# Altium schematic symbol library STM32.SchLib: 5 symbols
Pins are listed as number, name and electrical type; pins without a type are passive.

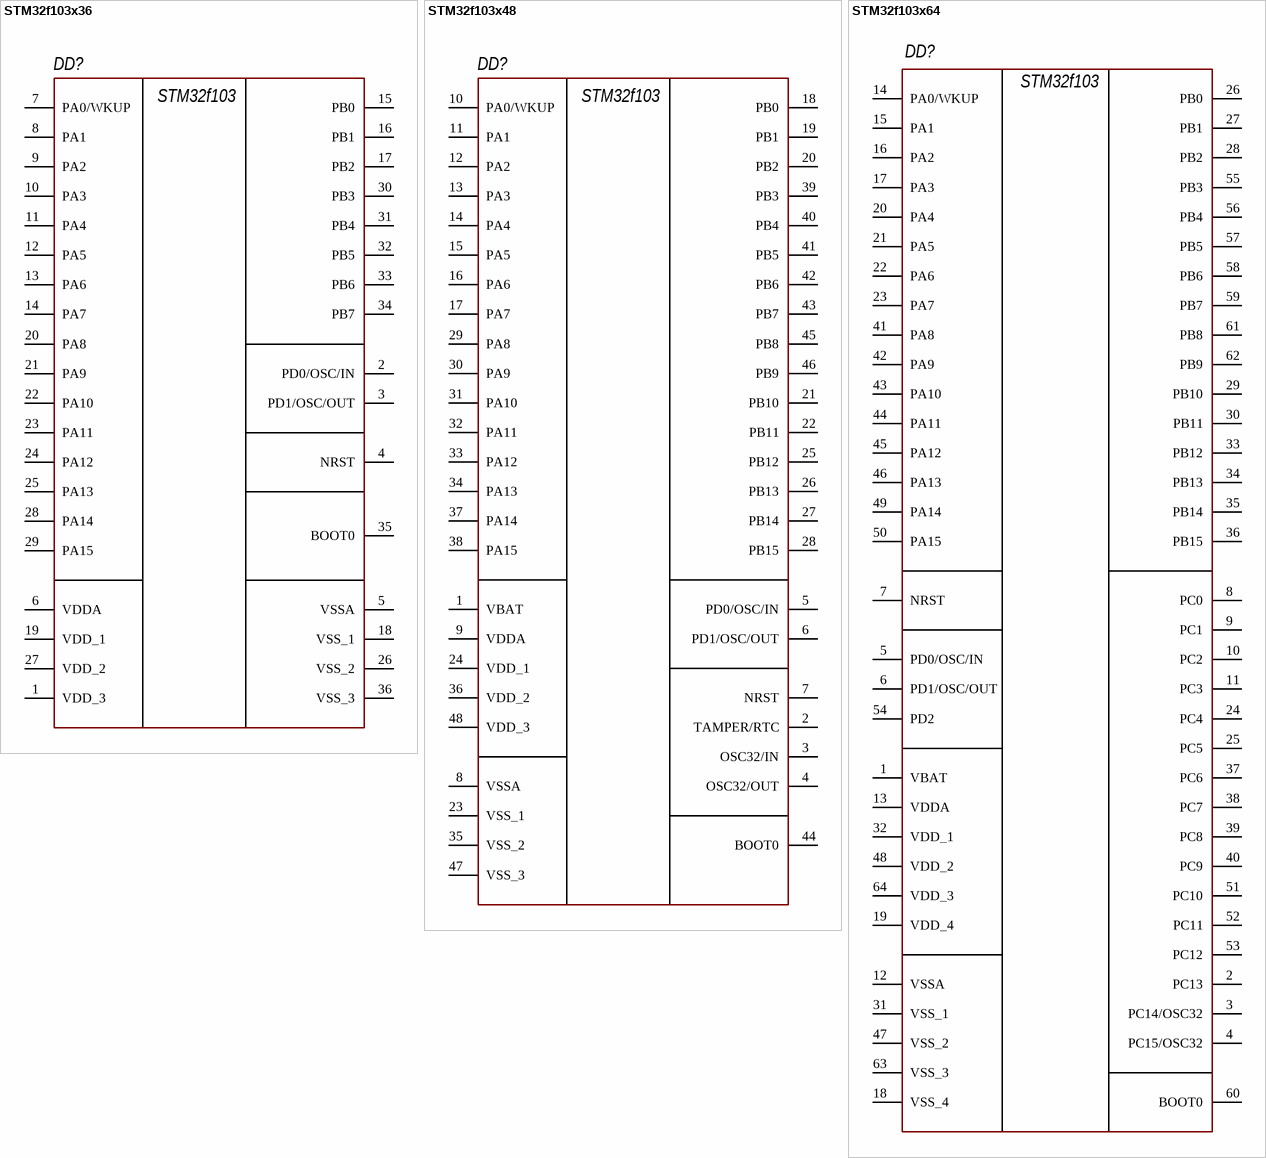
[diagram p0: symbols STM32f103x36 to STM32f103x64]

## STM32f103x36
designator DD?, comment STM32f103
Model: *; Manufcacture: *; HelpURL: *; Case: *; Value: *
footprint PQFN50P600X600X100_HS-37N (PQFN, 36-Leads, Body 6,00x6,00mm, Pitch 0,50mm, Thermal Pad 3,00x3,00mm, IPC Medium Density)
pins: 1 VDD_3, 2 PD0/OSC/IN, 3 PD1/OSC/OUT, 4 NRST, 5 VSSA, 6 VDDA, 7 PA0/WKUP, 8 PA1, 9 PA2, 10 PA3, 11 PA4, 12 PA5, 13 PA6, 14 PA7, 15 PB0, 16 PB1, 17 PB2, 18 VSS_1, 19 VDD_1, 20 PA8, 21 PA9, 22 PA10, 23 PA11, 24 PA12, 25 PA13, 26 VSS_2, 27 VDD_2, 28 PA14, 29 PA15, 30 PB3, 31 PB4, 32 PB5, 33 PB6, 34 PB7, 35 BOOT0, 36 VSS_3

## STM32f103x48
designator DD?, comment STM32f103
Model: *; Manufcacture: *; HelpURL: *; Case: *; Value: *
footprint 48-LQFP (TSQFP, 48-Leads, Body 7,00x7,00mm, Pitch 0,50mm, IPC Medium Density)
pins: 1 VBAT, 2 TAMPER/RTC, 3 OSC32/IN, 4 OSC32/OUT, 5 PD0/OSC/IN, 6 PD1/OSC/OUT, 7 NRST, 8 VSSA, 9 VDDA, 10 PA0/WKUP, 11 PA1, 12 PA2, 13 PA3, 14 PA4, 15 PA5, 16 PA6, 17 PA7, 18 PB0, 19 PB1, 20 PB2, 21 PB10, 22 PB11, 23 VSS_1, 24 VDD_1, 25 PB12, 26 PB13, 27 PB14, 28 PB15, 29 PA8, 30 PA9, 31 PA10, 32 PA11, 33 PA12, 34 PA13, 35 VSS_2, 36 VDD_2, 37 PA14, 38 PA15, 39 PB3, 40 PB4, 41 PB5, 42 PB6, 43 PB7, 44 BOOT0, 45 PB8, 46 PB9, 47 VSS_3, 48 VDD_3

## STM32f103x64
designator DD?, comment STM32f103
footprint 64-LQFP (TSQFP, 64-Leads, Body 10,00x10,00mm, Pitch 0,50mm, IPC Medium Density)
footprint STM32f103x64
pins: 1 VBAT, 2 PC13, 3 PC14/OSC32, 4 PC15/OSC32, 5 PD0/OSC/IN, 6 PD1/OSC/OUT, 7 NRST, 8 PC0, 9 PC1, 10 PC2, 11 PC3, 12 VSSA, 13 VDDA, 14 PA0/WKUP, 15 PA1, 16 PA2, 17 PA3, 18 VSS_4, 19 VDD_4, 20 PA4, 21 PA5, 22 PA6, 23 PA7, 24 PC4, 25 PC5, 26 PB0, 27 PB1, 28 PB2, 29 PB10, 30 PB11, 31 VSS_1, 32 VDD_1, 33 PB12, 34 PB13, 35 PB14, 36 PB15, 37 PC6, 38 PC7, 39 PC8, 40 PC9, 41 PA8, 42 PA9, 43 PA10, 44 PA11, 45 PA12, 46 PA13, 47 VSS_2, 48 VDD_2, 49 PA14, 50 PA15, 51 PC10, 52 PC11, 53 PC12, 54 PD2, 55 PB3, 56 PB4, 57 PB5, 58 PB6, 59 PB7, 60 BOOT0, 61 PB8, 62 PB9, 63 VSS_3, 64 VDD_3

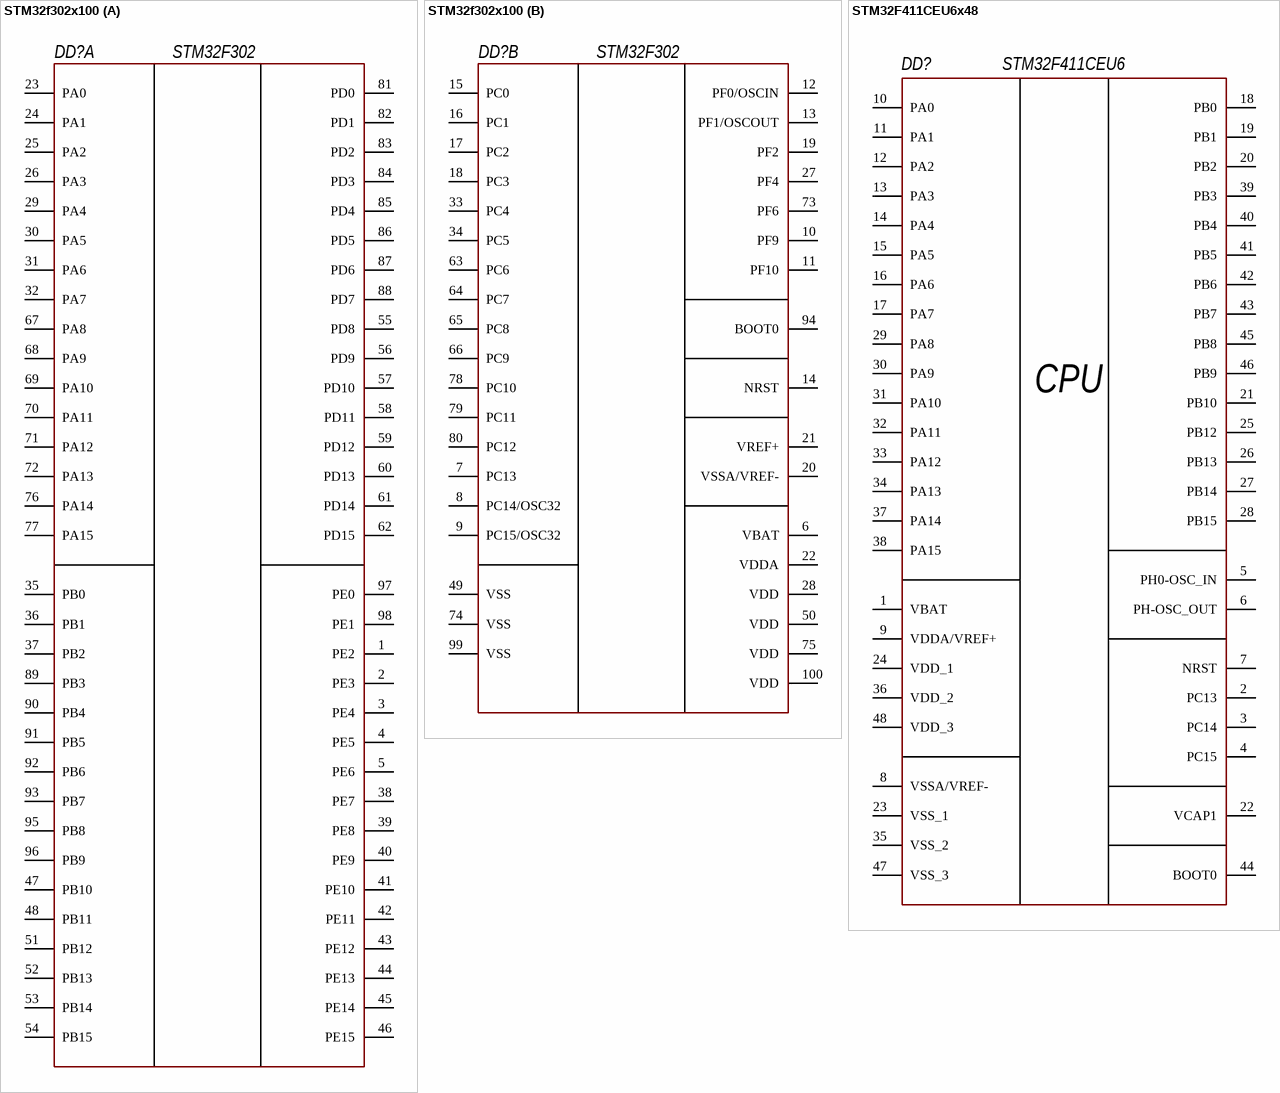
[diagram p1: symbols STM32f302x100 to STM32F411CEU6x48]

## STM32f302x100
designator DD?, comment STM32F302
footprint 100-LQFP (TSQFP, 100-Leads, Body 14,00x14,00mm, Pitch 0,50mm, IPC Medium Density)
part A pins: 1 PE2, 2 PE3, 3 PE4, 4 PE5, 5 PE6, 23 PA0, 24 PA1, 25 PA2, 26 PA3, 29 PA4, 30 PA5, 31 PA6, 32 PA7, 35 PB0, 36 PB1, 37 PB2, 38 PE7, 39 PE8, 40 PE9, 41 PE10, 42 PE11, 43 PE12, 44 PE13, 45 PE14, 46 PE15, 47 PB10, 48 PB11, 51 PB12, 52 PB13, 53 PB14, 54 PB15, 55 PD8, 56 PD9, 57 PD10, 58 PD11, 59 PD12, 60 PD13, 61 PD14, 62 PD15, 67 PA8, 68 PA9, 69 PA10, 70 PA11, 71 PA12, 72 PA13, 76 PA14, 77 PA15, 81 PD0, 82 PD1, 83 PD2, 84 PD3, 85 PD4, 86 PD5, 87 PD6, 88 PD7, 89 PB3, 90 PB4, 91 PB5, 92 PB6, 93 PB7, 95 PB8, 96 PB9, 97 PE0, 98 PE1
part B pins: 6 VBAT, 7 PC13, 8 PC14/OSC32, 9 PC15/OSC32, 10 PF9, 11 PF10, 12 PF0/OSCIN, 13 PF1/OSCOUT, 14 NRST, 15 PC0, 16 PC1, 17 PC2, 18 PC3, 19 PF2, 20 VSSA/VREF-, 21 VREF+, 22 VDDA, 27 PF4, 28 VDD, 33 PC4, 34 PC5, 49 VSS, 50 VDD, 63 PC6, 64 PC7, 65 PC8, 66 PC9, 73 PF6, 74 VSS, 75 VDD, 78 PC10, 79 PC11, 80 PC12, 94 BOOT0, 99 VSS, 100 VDD

## STM32F411CEU6x48
designator DD?, comment STM32F411CEU6
Model: *; Manufcacture: *; HelpURL: *; Case: *; Value: *
footprint UFQFPN48
pins: 1 VBAT, 2 PC13, 3 PC14, 4 PC15, 5 PH0-OSC_IN, 6 PH-OSC_OUT, 7 NRST, 8 VSSA/VREF-, 9 VDDA/VREF+, 10 PA0, 11 PA1, 12 PA2, 13 PA3, 14 PA4, 15 PA5, 16 PA6, 17 PA7, 18 PB0, 19 PB1, 20 PB2, 21 PB10, 22 VCAP1, 23 VSS_1, 24 VDD_1, 25 PB12, 26 PB13, 27 PB14, 28 PB15, 29 PA8, 30 PA9, 31 PA10, 32 PA11, 33 PA12, 34 PA13, 35 VSS_2, 36 VDD_2, 37 PA14, 38 PA15, 39 PB3, 40 PB4, 41 PB5, 42 PB6, 43 PB7, 44 BOOT0, 45 PB8, 46 PB9, 47 VSS_3, 48 VDD_3
text: CPU